# Altium schematic symbol library SCH - POWER SWITCH - INFINEON ISP752T.SchLib: 1 symbol
Pins are listed as number, name and electrical type; pins without a type are passive.

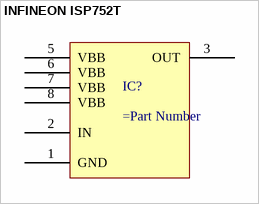
[diagram p0: symbol INFINEON ISP752T]

## INFINEON ISP752T
designator IC?
pins: 1 GND, 2 IN, 3 OUT, 5 VBB, 6 VBB, 7 VBB, 8 VBB